# EAGLE library part PH_1X20 (library PP_Connectors)
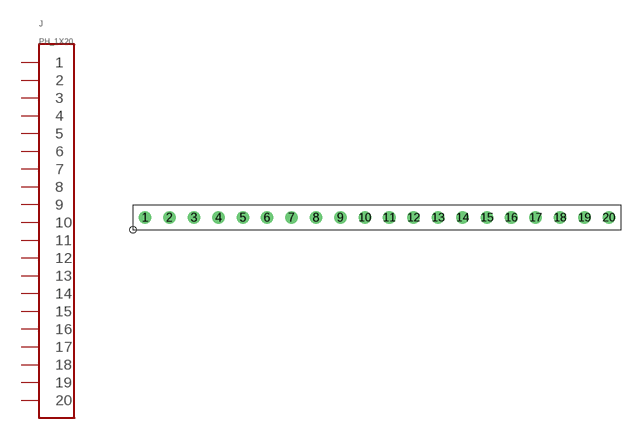
[diagram p11: symbol with the pads of HEADER_01X20_PTH_ROUND; footprint HEADER_01X20_PTH_ROUND]

Designator prefix J

## PH_1X20HEADER_01X20_PTH_ROUND  [HEADER_01X20_PTH_ROUND]
1  1
2  2
3  3
4  4
5  5
6  6
7  7
8  8
9  9
10  10
11  11
12  12
13  13
14  14
15  15
16  16
17  17
18  18
19  19
20  20

## Footprint HEADER_01X20_PTH_ROUND (pad centres in mm)
drill 0.8: 1 -24.13,0; 2 -21.59,0; 3 -19.05,0; 4 -16.51,0; 5 -13.97,0; 6 -11.43,0; 7 -8.89,0; 8 -6.35,0; 9 -3.81,0; 10 -1.27,0; 11 1.27,0; 12 3.81,0; 13 6.35,0; 14 8.89,0; 15 11.43,0; 16 13.97,0; 17 16.51,0; 18 19.05,0; 19 21.59,0; 20 24.13,0